# EAGLE library part CS4216 (library F030NG)
CODEC / CRYSTAL CS4216
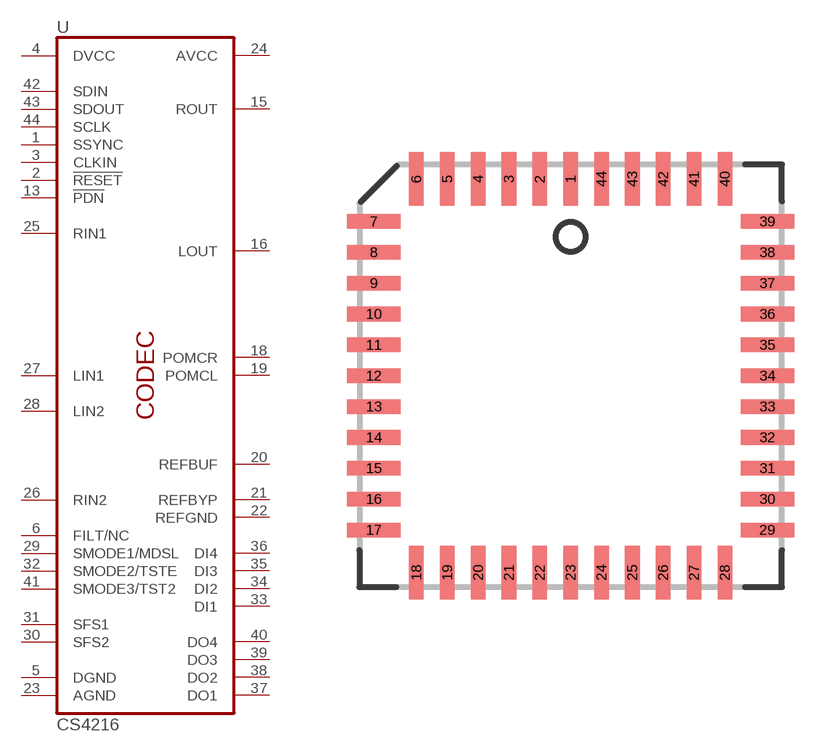
[diagram p30: symbol with the pads of PLCC44; footprint PLCC44]

Designator prefix U

## CS4216  [PLCC44]
1  SSYNC  in
2  !RESET  in
3  CLKIN  in
4  DVCC  pwr
5  DGND  pas
6  FILT/NC  pas
13  !PDN  in
15  ROUT  out
16  LOUT  out
18  POMCR  sup
19  POMCL  sup
20  REFBUF  in
21  REFBYP  sup
22  REFGND  sup
23  AGND  pas
24  AVCC  pwr
25  RIN1  in
26  RIN2  in
27  LIN1  in
28  LIN2  in
29  SMODE1/MDSL  in
30  SFS2  in
31  SFS1  in
32  SMODE2/TSTE  in
33  DI1  in
34  DI2  in
35  DI3  in
36  DI4  in
37  DO1  out
38  DO2  out
39  DO3  out
40  DO4  out
41  SMODE3/TST2  in
42  SDIN  in
43  SDOUT  out
44  SCLK  in

## Footprint PLCC44 (pad centres in mm)
PLASTIC LEADED CHIP CARRIER square
smd 0.6 x 2.2: 1 0,8.1; 2 -1.27,8.1; 3 -2.54,8.1; 4 -3.81,8.1; 5 -5.08,8.1; 6 -6.35,8.1; 18 -6.35,-8.1; 19 -5.08,-8.1; 20 -3.81,-8.1; 21 -2.54,-8.1; 22 -1.27,-8.1; 23 0,-8.1; 24 1.27,-8.1; 25 2.54,-8.1; 26 3.81,-8.1; 27 5.08,-8.1; 28 6.35,-8.1; 40 6.35,8.1; 41 5.08,8.1; 42 3.81,8.1; 43 2.54,8.1; 44 1.27,8.1
smd 2.2 x 0.6: 7 -8.1,6.35; 8 -8.1,5.08; 9 -8.1,3.81; 10 -8.1,2.54; 11 -8.1,1.27; 12 -8.1,0; 13 -8.1,-1.27; 14 -8.1,-2.54; 15 -8.1,-3.81; 16 -8.1,-5.08; 17 -8.1,-6.35; 29 8.1,-6.35; 30 8.1,-5.08; 31 8.1,-3.81; 32 8.1,-2.54; 33 8.1,-1.27; 34 8.1,0; 35 8.1,1.27; 36 8.1,2.54; 37 8.1,3.81; 38 8.1,5.08; 39 8.1,6.35